# EAGLE library part LTC1404CS8PBF (library custom_lib)
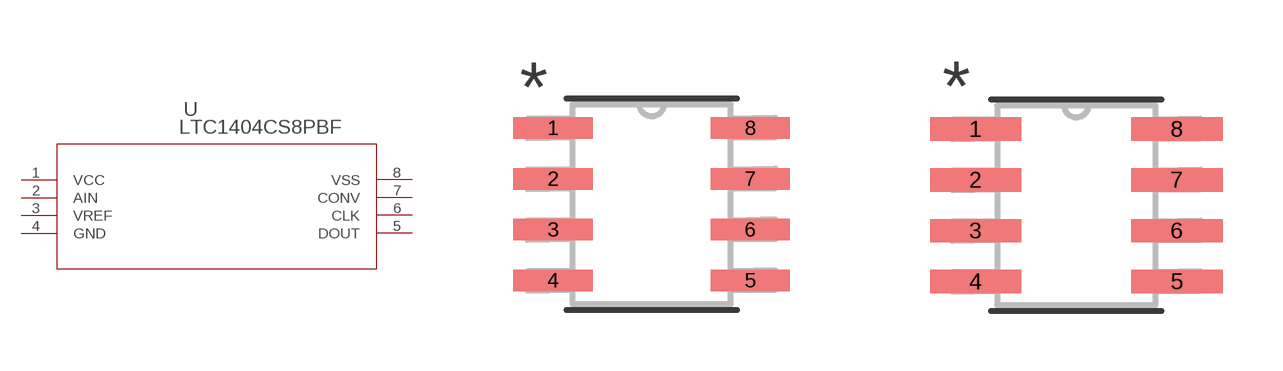
[diagram p6: symbol with the pads of SO-8_S; footprints SO-8_S, SO-8_S-M]

Designator prefix U

## LTC1404CS8PBF (MANUFACTURER_PART_NUMBER: LTC1404CS8#PBF; VENDOR: Linear Technology)  [SO-8_S]
1  VCC  pwr
2  AIN  in
3  VREF  out
4  GND  pwr
5  DOUT  hiz
6  CLK  in
7  CONV  in
8  VSS  pwr

## LTC1404CS8PBFSO-8_S-M (MANUFACTURER_PART_NUMBER: LTC1404CS8#PBF; VENDOR: Linear Technology)  [SO-8_S-M]
Pads as for SO-8_S

## LTC1404CS8PBFSO-8_S-L (MANUFACTURER_PART_NUMBER: LTC1404CS8#PBF; VENDOR: Linear Technology)  [SO-8_S-L]
Pads as for SO-8_S

## Footprint SO-8_S (pad centres in mm)
smd 1.981 x 0.533: 1 -2.464,1.905; 2 -2.464,0.635; 3 -2.464,-0.635; 4 -2.464,-1.905; 5 2.464,-1.905; 6 2.464,-0.635; 7 2.464,0.635; 8 2.464,1.905

## Footprint SO-8_S-M (pad centres in mm)
smd 2.286 x 0.584: 1 -2.515,1.905; 2 -2.515,0.635; 3 -2.515,-0.635; 4 -2.515,-1.905; 5 2.515,-1.905; 6 2.515,-0.635; 7 2.515,0.635; 8 2.515,1.905

## Footprint SO-8_S-L (pad centres in mm)
smd 1.676 x 0.483: 1 -2.413,1.905; 2 -2.413,0.635; 3 -2.413,-0.635; 4 -2.413,-1.905; 5 2.413,-1.905; 6 2.413,-0.635; 7 2.413,0.635; 8 2.413,1.905